# Altium footprint library Connector-5557.PcbLib: 1 footprints
Each footprint in its own frame and in the unit in brackets; x right, y up, seen from the top. Pads: shape width x height; smd on the part's side, far side on the other; paste and mask are expansions set on the pad; w line width, h text height; cw(c..) or ccw(c..) is an arc to the next point about the centre after c.
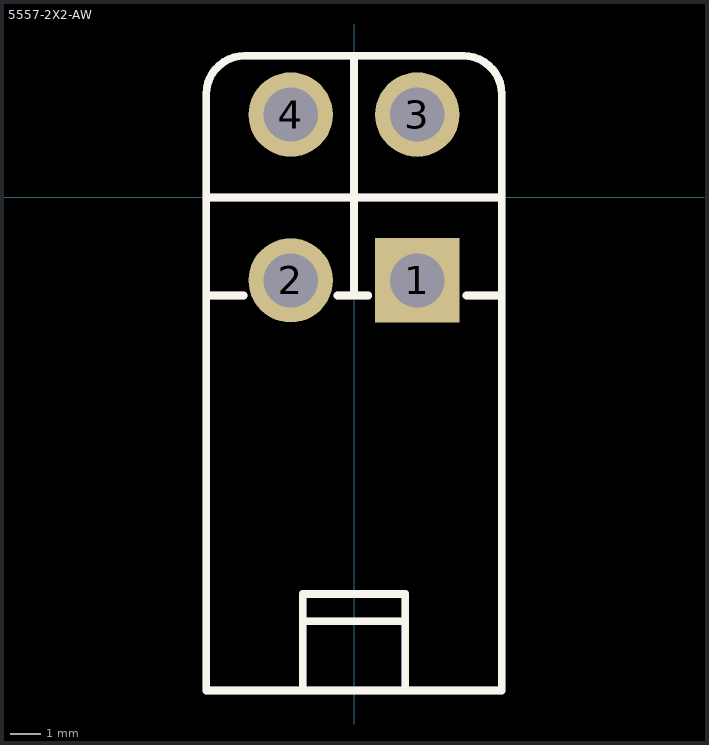
[diagram p0: the footprint, top view; thin cyan lines are the x and y axes]

## 5557-2X2-AW [mm] "HC(虹成电子)   HC-5557-4.2-2x2AW"
pads (4):
  rect 2.8x2.8 hole 1.8: 1(2.1,-2.75)
  round 2.8 hole 1.8: 2(-2.1,-2.75) 3(2.1,2.75) 4(-2.1,2.75)
Top Overlay:
  lines w0.254: -4.8,0 4.8,0 ; -3.653,-3.25 -4.9,-3.25 ; -1.7,-16.35 -1.7,-13.15 1.7,-13.15 1.7,-16.35 ; -1.7,-14.05 1.7,-14.05 ; -0.548,-3.25 0.469,-3.25 ; 0,-3.25 0,4.699 ; 3.731,-3.25 3.8,-3.25 4.9,-3.25 ; -4.9,-3.25 -4.9,3.429 cw(c-3.63,3.429) -3.63,4.699 3.63,4.699 cw(c3.63,3.429) 4.9,3.429 4.9,-3.25 ; -4.9,-3.25 -4.9,-16.35 4.9,-16.35 4.9,-3.25 ; 0,4.699 ccw(c0,4.699) 0,4.699 ; 0,4.699 ccw(c0,4.699) 0,4.699
Top Value:
  text "'.Comment'" at -4.314,-0.581 h2
Top Designator:
  text "'.Designator'" at -5.72,-0.418 h2
Bottom Courtyard:
  region: 4.86,-16.35 4.859,-16.326 4.824,-16.292 4.776,-16.292 4.741,-16.326 4.74,-16.35 4.741,-16.374 4.776,-16.408 4.824,-16.408 4.859,-16.374 4.86,-16.35
Top Assembly (Mech20):
  lines w0.051: -4.8,-16.35 -4.8,-3.25 ; 4.8,-16.35 4.8,-3.25
  lines w0.254: -4.8,0 4.8,0 ; -3.653,-3.25 -4.9,-3.25 ; -1.7,-16.35 -1.7,-13.15 1.7,-13.15 1.7,-16.35 ; -1.7,-14.05 1.7,-14.05 ; -0.548,-3.25 0.469,-3.25 ; 0,-3.25 0,4.699 ; 3.731,-3.25 3.8,-3.25 4.9,-3.25 ; -4.9,-3.25 -4.9,3.429 cw(c-3.63,3.429) -3.63,4.699 3.63,4.699 cw(c3.63,3.429) 4.9,3.429 4.9,-3.25 ; -4.9,-3.25 -4.9,-16.35 4.9,-16.35 4.9,-3.25 ; 0,4.699 ccw(c0,4.699) 0,4.699 ; 0,4.699 ccw(c0,4.699) 0,4.699
3D body "HC-5557-4.2-2x2AW.step": height 10.7, standoff -3.5, extent -4.9,-16.364 4.9,3.276